# Altium footprint library Passive.PcbLib: 2 footprints
Each footprint in its own frame and in the unit in brackets; x right, y up, seen from the top. Pads: shape width x height; smd on the part's side, far side on the other; paste and mask are expansions set on the pad; w line width, h text height; cw(c..) or ccw(c..) is an arc to the next point about the centre after c.
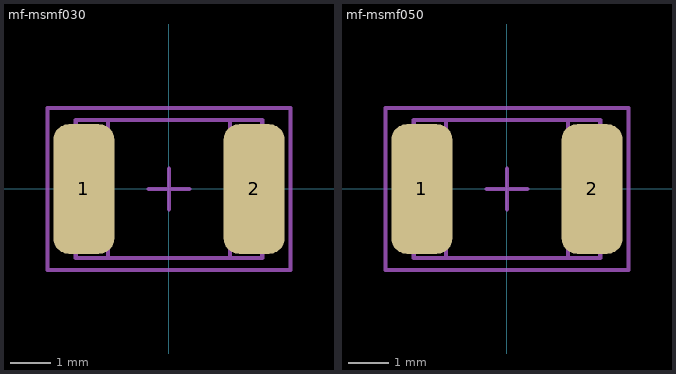
[diagram p0: the footprints below, top view; thin cyan lines are the x and y axes]

## mf-msmf030 [mm]
pads (2):
  rrect50% 1.5x3.2 smd: 1(-2.1,0) 2(2.1,0)
Mechanical 13:
  lines w0.1: -1.5,-1.7 -1.5,1.7 ; 1.5,-1.7 1.5,1.7 ; -2.3,-1.7 -2.3,-0.5 ccw(c-2.3,0) -2.3,0.5 -2.3,1.7 2.3,1.7 2.3,0.5 ccw(c2.3,0) 2.3,-0.5 2.3,-1.7 -2.3,-1.7
Mechanical 15:
  lines w0.1: -0.5,0 0.5,0 ; 0,-0.5 0,0.5 ; -3,-2 -3,2 3,2 3,-2 -3,-2
3D body: height 0.9, standoff 0, extent -2.275,-1.62 2.275,1.62

## mf-msmf050 [mm]
pads (2):
  rrect50% 1.5x3.2 smd: 1(-2.1,0) 2(2.1,0)
Mechanical 13:
  lines w0.1: -1.5,-1.7 -1.5,1.7 ; 1.5,-1.7 1.5,1.7 ; -2.3,-1.7 2.3,-1.7 2.3,-0.5 cw(c2.3,0) 2.3,0.5 2.3,1.7 -2.3,1.7 -2.3,0.5 cw(c-2.3,0) -2.3,-0.5 -2.3,-1.7
Mechanical 15:
  lines w0.1: -0.5,0 0.5,0 ; 0,-0.5 0,0.5 ; -3,-2 3,-2 3,2 -3,2 -3,-2
3D body: height 0.7, standoff 0, extent -2.275,-1.62 2.275,1.62